# Altium schematic symbol library Misc Connector USB.SchLib: 2 symbols
Pins are listed as number, name and electrical type; pins without a type are passive.

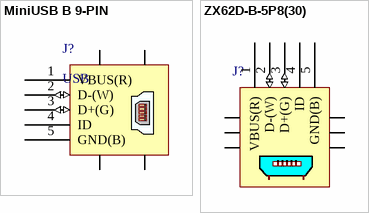
[diagram p0: symbols MiniUSB B 9-PIN to ZX62D-B-5P8(30)]

## MiniUSB B 9-PIN
designator J?, comment USB
Mini USB receptable
footprint USB/SM0.8-6H5 (Connector; USB2.0, Type B, SM; 5 Position; Right Angle)
pins: 1 VBUS(R) (power) "+5V Red", 2 D-(W) (io) "Data negative", 3 D+(G) (io) "Data positive", 4 ID "A connected to GND; B NC", 5 GND(B) (power) "GND", 6, 7, 8, 9

## ZX62D-B-5P8(30)
designator J?
USB - micro B USB 2.0 Receptacle Connector 5-Pin; Manufacturer: Hirose Electric Co Ltd; PartNumber: ZX62D-B-5P8(30); Package: USB2.0-4H5; PackageDescription: USB Micro B, 0.65mm Pitch, 4 holes; Supplier 1: Digi-Key; Supplier Part Number 1: H125272TR-ND; ComponentLink1URL: https://www.digikey.com/products/en?keywords=H125272TR-ND; ComponentLink1Description: Digi-Key
footprint USB2.0-4H5 (USB Micro B, 0.65mm Pitch, 4 holes)
pins: 1 VBUS(R) (power) "+5V Red", 2 D-(W) (io) "Data negative", 3 D+(G) (io) "Data positive", 4 ID "A connected to GND; B NC", 5 GND(B) (power) "GND", 6, 7, 8, 9, 10, 11